# EAGLE library part LMG5200 (library lmg5200)
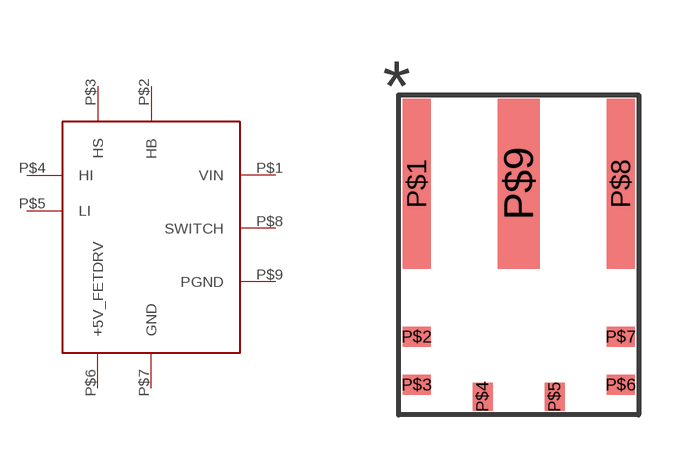
[diagram p0: symbol with the pads of LMG5200; footprint LMG5200]

Designator prefix -

## LMG5200  [LMG5200]
P$1  VIN  sup
P$2  HB  pwr
P$3  HS  pwr
P$4  HI  in
P$5  LI  in
P$6  +5V_FETDRV  sup
P$7  GND  sup
P$8  SWITCH  pwr
P$9  PGND  sup

## Footprint LMG5200 (pad centres in mm)
smd 0.7 x 4.25: P$1 -2.55,1.78; P$8 2.55,1.78
smd 0.7 x 0.5: P$2 -2.55,-2.05; P$3 -2.55,-3.25; P$6 2.55,-3.25; P$7 2.55,-2.05
smd 0.5 x 0.7: P$4 -0.9,-3.55; P$5 0.9,-3.55
smd 1.05 x 4.25: P$9 0,1.78